# Altium schematic symbol library Bluetooth_Controlled_Led_Matrix_Design.SchLib: 2 symbols
Pins are listed as number, name and electrical type; pins without a type are passive.

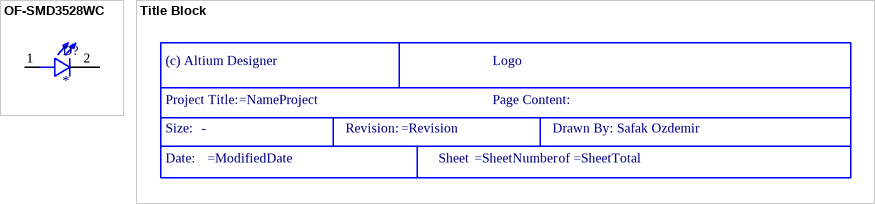
[diagram p0: symbols OF-SMD3528WC to Title Block]

## OF-SMD3528WC
designator D?
LED; SMD; 3528, PLCC2; white cold; 1700-2500mcd; 120Â°; 2; MP: OF-SMD3528WC; MF: Optoflash; Availability: Not in stock; SnapEDA_Link: https://www.snapeda.com/parts/OF-SMD3528WC/Optoflash/view-part/?ref=snap; Value: *; Price: None; Package: PLCC-2 Optoflash; Check_prices: https://www.snapeda.com/parts/OF-SMD3528WC/Optoflash/view-part/?ref=eda
footprint LED_OF-SMD3528WC
pins: 1 A, 2 C

## Title Block
designator *  Drawn By: Safak Ozdemir  (hidden comment: *)  (graphical)
Size: -
text: (c) Altium Designer; Logo; Project Title:; Page Content:; Size:; Revision:; Drawn By:; Date:; Sheet; of